# Altium schematic symbol library 5145154-4.SchLib: 1 symbol
Pins are listed as number, name and electrical type; pins without a type are passive.

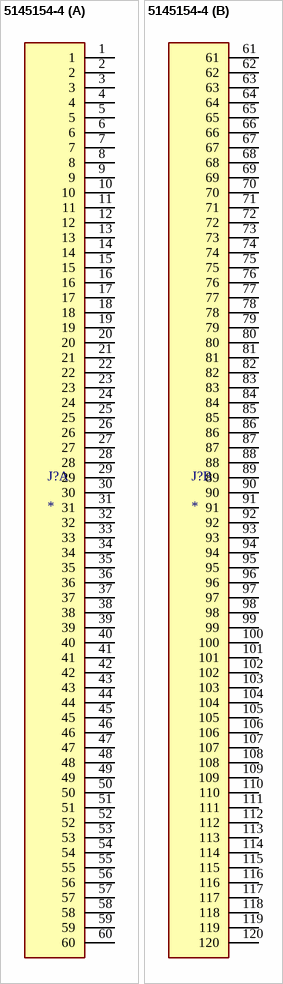
[diagram p0: symbol 5145154-4]

## 5145154-4
designator J?
Conn, Card Edge, Thermoplastic, White, 60 Dual Pos., Gold Cont., PCI | TE Connectivity 5145154-4; Product_Type: Connector; Number_of_Positions: 120; Centerline_Pitch: 1.27 mm[.05 in]; SnapEDA_Link: https://www.snapeda.com/parts/5145154-4/TE+Connectivity+AMP+Connectors/view-part/?ref=snap; Package: None; Value: *; MF: TE Connectivity; MP: 5145154-4; EU_RoHS_Compliance: Compliant; Check_prices: https://www.snapeda.com/parts/5145154-4/TE+Connectivity+AMP+Connectors/view-part/?ref=eda
footprint TE_5145154-4
part A pins: 1, 2, 3, 4, 5, 6, 7, 8, 9, 10, 11, 12, 13, 14, 15, 16, 17, 18, 19, 20, 21, 22, 23, 24, 25, 26, 27, 28, 29, 30, 31, 32, 33, 34, 35, 36, 37, 38, 39, 40, 41, 42, 43, 44, 45, 46, 47, 48, 49, 50, 51, 52, 53, 54, 55, 56, 57, 58, 59, 60
part B pins: 61, 62, 63, 64, 65, 66, 67, 68, 69, 70, 71, 72, 73, 74, 75, 76, 77, 78, 79, 80, 81, 82, 83, 84, 85, 86, 87, 88, 89, 90, 91, 92, 93, 94, 95, 96, 97, 98, 99, 100, 101, 102, 103, 104, 105, 106, 107, 108, 109, 110, 111, 112, 113, 114, 115, 116, 117, 118, 119, 120